# Altium footprint library BASIC Library.PCBLIB: 464 footprints (part 1 of 30)
Each footprint in its own frame and in the unit in brackets; x right, y up, seen from the top. Pads: shape width x height; smd on the part's side, far side on the other; paste and mask are expansions set on the pad; w line width, h text height; cw(c..) or ccw(c..) is an arc to the next point about the centre after c.
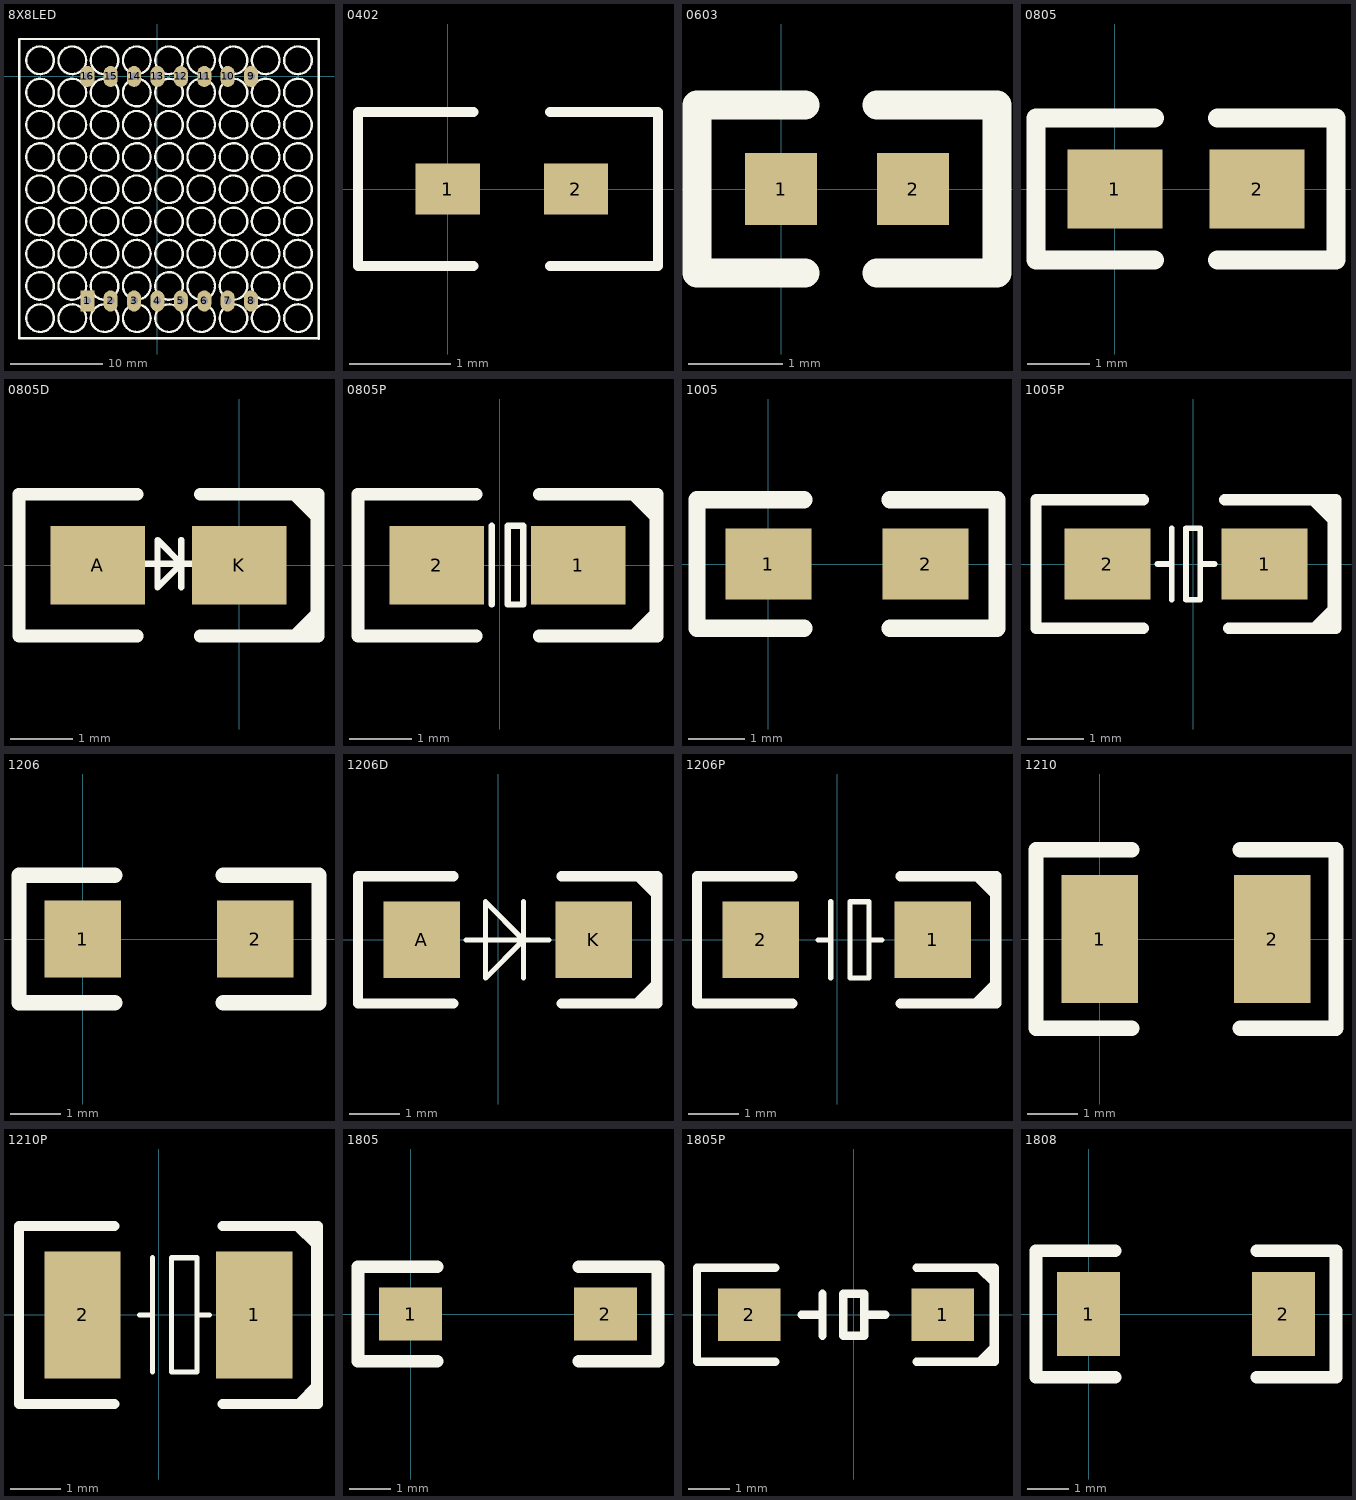
[diagram p0: the footprints below, top view; thin cyan lines are the x and y axes]

## 8X8LED [mil]
pads (16):
  rect 60x90 hole 32: 1(-300,-960)
  oval 60x90 hole 32: 2(-200,-960) 3(-100,-960) 4(0,-960) 5(100,-960) 6(200,-960) 7(300,-960) 8(400,-960) 9(400,0) 10(300,0) 11(200,0) 12(100,0) 13(0,0) 14(-100,0) 15(-200,0) 16(-300,0)
TopOverlay:
  circle w10: c-501.97,-1033.46 r59.05
  circle w10: c-501.97,-895.67 r59.05
  circle w10: c-501.97,-757.87 r59.05
  circle w10: c-501.97,-620.08 r59.05
  circle w10: c-501.97,-482.28 r59.05
  circle w10: c-501.97,-344.49 r59.05
  circle w10: c-501.97,-206.69 r59.05
  circle w10: c-501.97,-68.9 r59.05
  circle w10: c-501.97,68.9 r59.05
  circle w10: c-364.17,68.9 r59.05
  circle w10: c-364.17,-68.9 r59.05
  circle w10: c-364.17,-206.69 r59.05
  circle w10: c-364.17,-344.49 r59.05
  circle w10: c-364.17,-482.28 r59.05
  circle w10: c-364.17,-620.08 r59.05
  circle w10: c-364.17,-757.87 r59.05
  circle w10: c-364.17,-895.67 r59.05
  circle w10: c-364.17,-1033.46 r59.05
  circle w10: c-226.38,68.9 r59.05
  circle w10: c-226.38,-68.9 r59.05
  circle w10: c-226.38,-206.69 r59.05
  circle w10: c-226.38,-344.49 r59.05
  circle w10: c-226.38,-482.28 r59.05
  circle w10: c-226.38,-620.08 r59.05
  circle w10: c-226.38,-757.87 r59.05
  circle w10: c-226.38,-895.67 r59.05
  circle w10: c-226.38,-1033.46 r59.05
  circle w10: c-88.58,68.9 r59.05
  circle w10: c-88.58,-68.9 r59.05
  circle w10: c-88.58,-206.69 r59.05
  circle w10: c-88.58,-344.49 r59.05
  circle w10: c-88.58,-482.28 r59.05
  circle w10: c-88.58,-620.08 r59.05
  circle w10: c-88.58,-757.87 r59.05
  circle w10: c-88.58,-895.67 r59.05
  circle w10: c-88.58,-1033.46 r59.05
  circle w10: c49.21,68.9 r59.05
  circle w10: c49.21,-68.9 r59.05
  circle w10: c49.21,-206.69 r59.05
  circle w10: c49.21,-344.49 r59.05
  circle w10: c49.21,-482.28 r59.05
  circle w10: c49.21,-620.08 r59.05
  circle w10: c49.21,-757.87 r59.05
  circle w10: c49.21,-895.67 r59.05
  circle w10: c49.21,-1033.46 r59.05
  circle w10: c187.01,68.9 r59.05
  circle w10: c187.01,-68.9 r59.05
  circle w10: c187.01,-206.69 r59.05
  circle w10: c187.01,-344.49 r59.05
  circle w10: c187.01,-482.28 r59.05
  circle w10: c187.01,-620.08 r59.05
  circle w10: c187.01,-757.87 r59.05
  circle w10: c187.01,-895.67 r59.05
  circle w10: c187.01,-1033.46 r59.05
  circle w10: c324.8,68.9 r59.05
  circle w10: c324.8,-68.9 r59.05
  circle w10: c324.8,-206.69 r59.05
  circle w10: c324.8,-344.49 r59.05
  circle w10: c324.8,-482.28 r59.05
  circle w10: c324.8,-620.08 r59.05
  circle w10: c324.8,-757.87 r59.05
  circle w10: c324.8,-895.67 r59.05
  circle w10: c324.8,-1033.46 r59.05
  circle w10: c462.6,68.9 r59.05
  circle w10: c462.6,-68.9 r59.05
  circle w10: c462.6,-206.69 r59.05
  circle w10: c462.6,-344.49 r59.05
  circle w10: c462.6,-482.28 r59.05
  circle w10: c462.6,-620.08 r59.05
  circle w10: c462.6,-757.87 r59.05
  circle w10: c462.6,-895.67 r59.05
  circle w10: c462.6,-1033.46 r59.05
  circle w10: c600.39,68.9 r59.05
  circle w10: c600.39,-68.9 r59.05
  circle w10: c600.39,-206.69 r59.05
  circle w10: c600.39,-344.49 r59.05
  circle w10: c600.39,-482.28 r59.05
  circle w10: c600.39,-620.08 r59.05
  circle w10: c600.39,-757.87 r59.05
  circle w10: c600.39,-895.67 r59.05
  circle w10: c600.39,-1033.46 r59.05
  lines w10: 688.98,-1122.52 688.98,157.48 ; 689.21,-1120 -590.79,-1120 -590.79,160 689.21,160

## 0402 [mil]
pads (2):
  rect 25x20 smd: 1(0,0) 2(50,0)
TopOverlay:
  lines w4: 10,-30 -35,-30 -35,30 10,30 ; 40,-30 82,-30 82,30 40,30

## 0603 [mil]
pads (2):
  rect 30x30 smd: 1(0,0) 2(55,0)
TopOverlay:
  lines w12: 10,-35 -35,-35 -35,35 10,35 ; 40,-35 90,-35 90,35 40,35

## 0805 [mil]
pads (2):
  rect 60x50 smd: 1(0,0) 2(90,0)
TopOverlay:
  lines w12: 25,-45 -50,-45 -50,45 25,45 ; 65,-45 140,-45 140,45 65,45

## 0805D [mil]
pads (2):
  rect 60x50 smd: A(-90,0) K(0,0)
TopOverlay:
  rectangle: 44,-44 49,-34
  rectangle: 42,-44 44,-38
  rectangle: 39,-44 46,-40
  rectangle: 45,-33 50,34
  region: 49,39 49,44 39,44 39,39
  region: 49,37 49,39 43,39 43,37
  region: 49,34 49,41 45,41 45,34
  lines w4: -60,1 -30,1 ; -37,-14 -37,1 ; -37,16 -37,1 ; -37,1 -52,16 -52,-14 -37,1
  lines w8: -65,-45 -140,-45 -140,45 -65,45 ; -25,-45 50,-45 50,45 -25,45 ; 35,-45 50,-30 ; 35,45 50,30 35,45

## 0805P [mil]
pads (2):
  rect 60x50 smd: 1(50,0) 2(-40,0)
TopOverlay:
  rectangle: 94,-44 99,-34
  rectangle: 92,-44 94,-38
  rectangle: 89,-44 96,-40
  rectangle: 95,-33 100,34
  region: 99,39 99,44 89,44 89,39
  region: 99,37 99,39 93,39 93,37
  region: 99,34 99,41 95,41 95,34
  lines w4: -5,-25 -5,25 ; 5,-25 5,25 15,25 15,-25 5,-25
  lines w8: -15,-45 -90,-45 -90,45 -15,45 ; 25,-45 100,-45 100,45 25,45 ; 85,-45 100,-30 ; 85,45 100,30 85,45

## 1005 [mil]
pads (2):
  rect 60x50 smd: 1(0,0) 2(110,0)
TopOverlay:
  lines w12: 25,-45 -50,-45 -50,45 25,45 ; 85,-45 160,-45 160,45 85,45

## 1005P [mil]
pads (2):
  rect 60x50 smd: 1(50,0) 2(-60,0)
TopOverlay:
  rectangle: 94,-34 100,33
  rectangle: 94,34 100,45
  rectangle: 88,38.55 90.45,45
  rectangle: 90.45,38.55 94,45
  rectangle: 92,37 100,45
  rectangle: 94,33 100,38.55
  rectangle: 94,-44 99,-34
  rectangle: 92,-44 94,-38
  rectangle: 89,-44 96,-40
  lines w4: -25,0 -15,0 ; -15,-25 -15,25 ; 5,0 15,0 ; -5,-25 5,-25 5,25 -5,25 -5,-25
  lines w8: -35,-45 -110,-45 -110,45 -35,45 ; 22,45 82,45 ; 25,45 100,45 100,-45 25,-45 90,-45 ; 80,-45 85,-45 100,-30 100,-20 ; 84,45 99,30 ; 100,-35 100,30

## 1206 [mil]
pads (2):
  rect 60x60 smd: 1(0,0) 2(135,0)
TopOverlay:
  lines w12: 25,-50 -50,-50 -50,50 25,50 ; 110,-50 185,-50 185,50 110,50

## 1206D [mil]
pads (2):
  rect 60x60 smd: A(-60,0) K(75,0)
TopOverlay:
  region: 124,44 124,49 114,49 114,44
  region: 124,42 124,44 118,44 118,42
  region: 124,39 124,46 120,46 120,39
  rectangle: 119,-48 124,-38
  rectangle: 117,-48 119,-42
  rectangle: 114,-48 121,-44
  rectangle: 120,-39 124,38
  lines w4: -25,0 40,0 ; 20,-30 20,30 ; -10,-30 20,0 -10,30 -10,-30
  lines w8: -35,-50 -110,-50 -110,50 -35,50 ; 50,-50 125,-50 125,50 50,50 ; 110,-49 125,-34 ; 110,50 125,35

## 1206P [mil]
pads (2):
  rect 60x60 smd: 1(75,0) 2(-60,0)
TopOverlay:
  rectangle: 120,-39 124,38
  rectangle: 114,-48 121,-44
  rectangle: 117,-48 119,-42
  rectangle: 119,-48 124,-38
  region: 124,39 124,46 120,46 120,39
  region: 124,42 124,44 118,44 118,42
  region: 124,44 124,49 114,49 114,44
  lines w4: -15,0 -5,0 ; -5,-30 -5,30 ; 25,0 35,0 ; 10,-30 25,-30 25,30 10,30 10,-30
  lines w8: -35,-50 -110,-50 -110,50 -35,50 ; 50,-50 125,-50 125,50 50,50 ; 110,-49 125,-34 ; 110,50 125,35

## 1210 [mil]
pads (2):
  rect 60x100 smd: 1(0,0) 2(135,0)
TopOverlay:
  lines w12: 25,-70 -50,-70 -50,70 25,70 ; 110,-70 185,-70 185,70 110,70

## 1210P [mil]
pads (2):
  rect 60x100 smd: 1(75,0) 2(-60,0)
TopOverlay:
  rectangle: 119.25,-69.25 123.75,-59.25
  rectangle: 117.5,-68.5 119.5,-63.5
  rectangle: 113,-70 122,-65
  region: 123.25,64.25 123.25,68.75 113.25,68.75 113.25,64.25
  region: 122.5,62.5 122.5,64.5 117.5,64.5 117.5,62.5
  region: 124,58 124,67 119,67 119,58
  rectangle: 119.65,-58 125,58
  lines w4: -15,0 -5,0 ; -5,-45 -5,45 ; 30,0 40,0 ; 10,-45 30,-45 30,45 10,45 10,-45
  lines w8: -35,-70 -110,-70 -110,70 -35,70 ; 50,-70 125,-70 125,70 50,70 ; 109,70 124,55 ; 110,-70 125,-55

## 1805 [mil]
pads (2):
  rect 60x50 smd: 1(0,0) 2(185,0)
TopOverlay:
  lines w12: 25,-45 -50,-45 -50,45 25,45 ; 160,-45 235,-45 235,45 160,45

## 1805P [mil]
pads (2):
  rect 60x50 smd: 1(85,0) 2(-100,0)
TopOverlay:
  rectangle: 123,-45 132,-40
  rectangle: 127.5,-43.5 129.5,-38.5
  rectangle: 129.25,-44.25 133.75,-34.25
  region: 135,33 135,42 130,42 130,33
  region: 133.5,37.5 133.5,39.5 128.5,39.5 128.5,37.5
  region: 134.25,39.25 134.25,43.75 124.25,43.75 124.25,39.25
  rectangle: 130,-33 135,33
  lines w8: -75,-45 -150,-45 -150,45 -75,45 ; -50,0 -30,0 ; -30,-20 -30,20 ; 10,0 30,0 ; 60,-45 135,-45 135,45 60,45 ; 120,-45 135,-30 ; 120,45 135,30 ; -10,-20 10,-20 10,20 -10,20 -10,-20

## 1808 [mil]
pads (2):
  rect 60x80 smd: 1(0,0) 2(185,0)
TopOverlay:
  lines w12: 25,-60 -50,-60 -50,60 25,60 ; 160,-60 235,-60 235,60 160,60